# EAGLE library part ARDUINO_NANO_V3_091_OLED (library Arduino_Nano_V3_22mm_OLED_NOICSP)
Arduino NANO V3 with 0.91 OLED display. No ICSP pins to pads. ICSP connections are external. Pin spacing in row is standard 0.10 inch but width between rows is unusual 22mm.
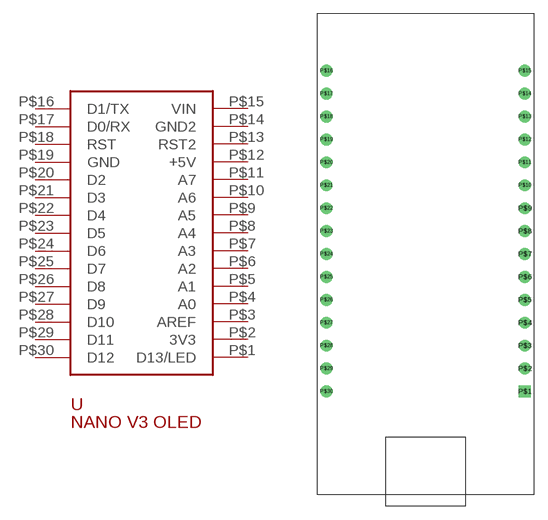
[diagram p0: symbol with the pads of ARDUINO_NANO_V3_091_OLED; footprint ARDUINO_NANO_V3_091_OLED]

Designator prefix -

## ARDUINO_NANO_V3_091_OLEDARDUINO_NANO_OLED_ICSP  [ARDUINO_NANO_V3_091_OLED]
P$1  D13/LED
P$2  3V3  pwr
P$3  AREF
P$4  A0
P$5  A1
P$6  A2
P$7  A3
P$8  A4
P$9  A5
P$10  A6
P$11  A7
P$12  +5V  pwr
P$13  RST2
P$14  GND2  pwr
P$15  VIN
P$16  D1/TX
P$17  D0/RX
P$18  RST
P$19  GND  pwr
P$20  D2
P$21  D3
P$22  D4
P$23  D5
P$24  D6
P$25  D7
P$26  D8
P$27  D9
P$28  D10
P$29  D11
P$30  D12

## Footprint ARDUINO_NANO_V3_091_OLED (pad centres in mm)
Arduino NANO V3 with 0.91 OLED
drill 0.8 square: P$1 11,-16.51
drill 0.8: P$2 11,-13.97; P$3 11,-11.43; P$4 11,-8.89; P$5 11,-6.35; P$6 11,-3.81; P$7 11,-1.27; P$8 11,1.27; P$9 11,3.81; P$10 11,6.35; P$11 11,8.89; P$12 11,11.43; P$13 11,13.97; P$14 11,16.51; P$15 11,19.05; P$16 -11,19.05; P$17 -11,16.51; P$18 -11,13.97; P$19 -11,11.43; P$20 -11,8.89; P$21 -11,6.35; P$22 -11,3.81; P$23 -11,1.27; P$24 -11,-1.27; P$25 -11,-3.81; P$26 -11,-6.35; P$27 -11,-8.89; P$28 -11,-11.43; P$29 -11,-13.97; P$30 -11,-16.51